# Altium schematic symbol library LMG1210RVRT.Schlib: 1 symbol
Pins are listed as number, name and electrical type; pins without a type are passive.

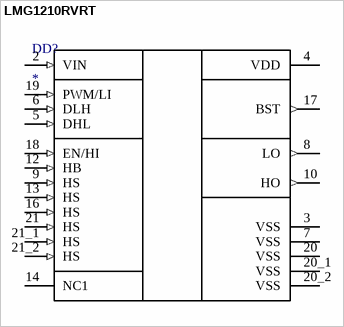
[diagram p0: symbol LMG1210RVRT]

## LMG1210RVRT
designator DD?
1.5-A, 3-A, 200-V half bridge gate driver, 5-V UVLO and programmable dead-time for GaNFET and MOSFET
pins: 2 VIN (in), 3 VSS (power), 4 VDD (power), 5 DHL (in), 6 DLH (in), 7 VSS (power), 8 LO (out), 9 HS (in), 10 HO (out), 12 HB (in), 13 HS (in), 14 NC1, 16 HS (in), 17 BST (out), 18 EN/HI (in), 19 PWM/LI (in), 20 VSS (power), 20_1 VSS (power), 20_2 VSS (power), 21 HS (in), 21_1 HS (in), 21_2 HS (in)